# EAGLE library part TEXAS_INSTRUMENTS-LEVEL_SHIFTER-SN74ALVC164245_DGG_48 (library Module_ICs)
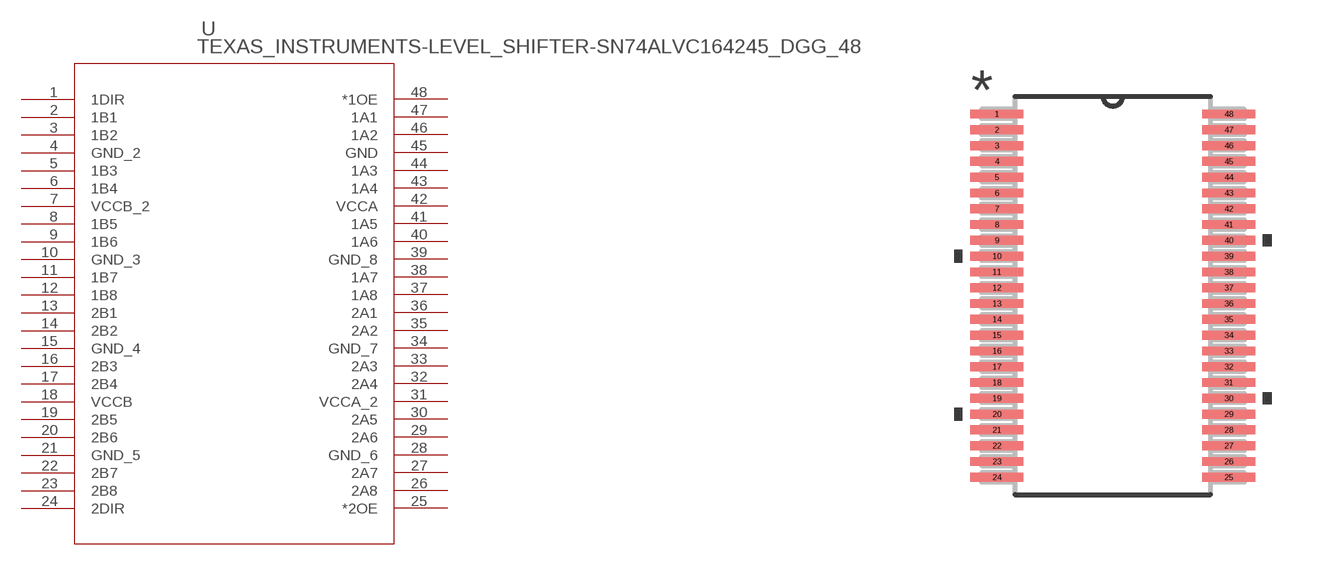
[diagram p18: symbol with the pads of TEXAS_INSTRUMENTS-LEVEL_SHIFTER-SN74ALVC164245_DGG_48; footprint TEXAS_INSTRUMENTS-LEVEL_SHIFTER-SN74ALVC164245_DGG_48]

Designator prefix U

## TEXAS_INSTRUMENTS-LEVEL_SHIFTER-SN74ALVC164245_DGG_48 (DATASHEETURL: httpwww.ti.comlitgpnSN74ALVC164245; FAMILY_NAME: DIRECTION CONTROL DUAL SUPPLY TRANSLATOR; GENERIC_PART_NUMBER: SN74ALVC164245; INDUSTRY_STD_PKG_TYPE: TSSOP; MANUFACTURER: Texas Instruments; MANUFACTURER_PART_NUMBER: sn74alvc164245_dgg_48; PACKAGE_DESIGNATOR: DGG; PIN_COUNT: 48; VENDOR: Texas Instruments)  [TEXAS_INSTRUMENTS-LEVEL_SHIFTER-SN74ALVC164245_DGG_48]
1  1DIR  in
2  1B1
3  1B2
4  GND_2  pwr
5  1B3
6  1B4
7  VCCB_2  pwr
8  1B5
9  1B6
10  GND_3  pwr
11  1B7
12  1B8
13  2B1
14  2B2
15  GND_4  pwr
16  2B3
17  2B4
18  VCCB  pwr
19  2B5
20  2B6
21  GND_5  pwr
22  2B7
23  2B8
24  2DIR  in
25  *2OE  in
26  2A8
27  2A7
28  GND_6  pwr
29  2A6
30  2A5
31  VCCA_2  pwr
32  2A4
33  2A3
34  GND_7  pwr
35  2A2
36  2A1
37  1A8
38  1A7
39  GND_8  pwr
40  1A6
41  1A5
42  VCCA  pwr
43  1A4
44  1A3
45  GND  pwr
46  1A2
47  1A1
48  *1OE  in

## Footprint TEXAS_INSTRUMENTS-LEVEL_SHIFTER-SN74ALVC164245_DGG_48 (pad centres in mm)
smd 1.676 x 0.279: 1 -3.67,5.75; 2 -3.67,5.25; 3 -3.67,4.75; 4 -3.67,4.25; 5 -3.67,3.75; 6 -3.67,3.25; 7 -3.67,2.75; 8 -3.67,2.25; 9 -3.67,1.75; 10 -3.67,1.25; 11 -3.67,0.75; 12 -3.67,0.25; 13 -3.67,-0.25; 14 -3.67,-0.75; 15 -3.67,-1.25; 16 -3.67,-1.75; 17 -3.67,-2.25; 18 -3.67,-2.75; 19 -3.67,-3.25; 20 -3.67,-3.75; 21 -3.67,-4.25; 22 -3.67,-4.75; 23 -3.67,-5.25; 24 -3.67,-5.75; 25 3.67,-5.75; 26 3.67,-5.25; 27 3.67,-4.75; 28 3.67,-4.25; 29 3.67,-3.75; 30 3.67,-3.25; 31 3.67,-2.75; 32 3.67,-2.25; 33 3.67,-1.75; 34 3.67,-1.25; 35 3.67,-0.75; 36 3.67,-0.25; 37 3.67,0.25; 38 3.67,0.75; 39 3.67,1.25; 40 3.67,1.75; 41 3.67,2.25; 42 3.67,2.75; 43 3.67,3.25; 44 3.67,3.75; 45 3.67,4.25; 46 3.67,4.75; 47 3.67,5.25; 48 3.67,5.75